# Altium integrated library Motorola Peripheral IO Port.IntLib: 3 symbols
Pins are listed as number, name and electrical type; pins without a type are passive.

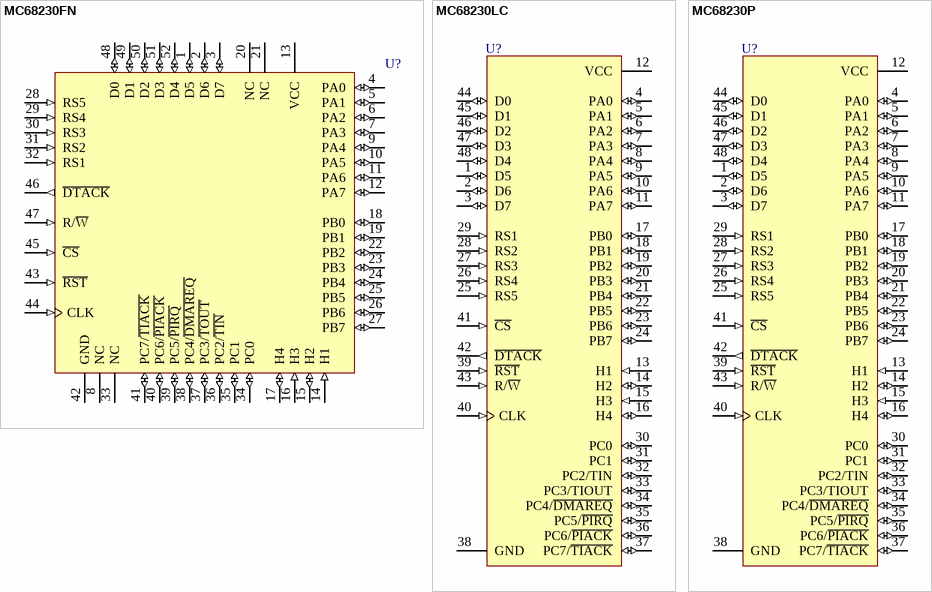
[diagram p0: symbols MC68230FN to MC68230P]

## MC68230FN
designator U?
Parallel Interface/Timer; Published: 17-Jul-2002; LatestRevisionDate: 13-Apr-2006; LatestRevisionNote: IPC-7351 Footprint Added.; DatasheetVersion: 1990; PackageVersion: rev3, 1997; PackageReference: 778-02; Publisher: Altium Limited; PackageDescription: 52-Pin Plastic Leaded Chip Carrier 1.27 mm Pitch
footprint 778-02_N (Leaded Chip Carrier, 52-Leads, Body 19x19mm, Pitch 1.27mm, IPC Medium Density)
footprint 778-02_L (Leaded Chip Carrier, 52-Leads, Body 19x19mm, Pitch 1.27mm, IPC High Density)
footprint 778-02_M (Leaded Chip Carrier, 52-Leads, Body 19x19mm, Pitch 1.27mm, IPC Low Density)
3D model MC68230-778-02 (52-Pin Plastic Leaded Chip Carrier 1.27 mm Pitch)
pins: 1 D5 (io), 2 D6 (io), 3 D7 (io), 4 PA0 (io), 5 PA1 (io), 6 PA2 (io), 7 PA3 (io), 8 NC, 9 PA4 (io), 10 PA5 (io), 11 PA6 (io), 12 PA7 (io), 13 VCC (power), 14 H1 (in), 15 H2 (io), 16 H3 (in), 17 H4 (io), 18 PB0 (io), 19 PB1 (io), 20 NC, 21 NC, 22 PB2 (io), 23 PB3 (io), 24 PB4 (io), 25 PB5 (io), 26 PB6 (io), 27 PB7 (io), 28 RS5 (in), 29 RS4 (in), 30 RS3 (in), 31 RS2 (in), 32 RS1 (in), 33 NC, 34 PC0 (io), 35 PC1 (io), 36 PC2/~{TIN} (io), 37 PC3/~{TOUT} (io), 38 PC4/~{DMAREQ} (io), 39 PC5/~{PIRQ} (io), 40 PC6/~{PIACK} (io), 41 PC7/~{TIACK} (io), 42 GND (power), 43 ~{RST} (in), 44 CLK (in), 45 ~{CS} (in), 46 ~{DTACK} (out), 47 R/~{W} (in), 48 D0 (io), 49 D1 (io), 50 D2 (io), 51 D3 (io), 52 D4 (io)

## MC68230LC
designator U?
Parallel Interface/Timer; Published: 17-Jul-2002; LatestRevisionDate: 06-Jun-2005; LatestRevisionNote: Stylized 3D Model Added.; DatasheetVersion: 1990; PackageReference: 740-03; Publisher: Altium Limited; PackageDescription: DIP; 48 Leads; Row Spacing 15.24 mm; Pitch 2.54 mm
footprint 740-03 (DIP; 48 Leads; Row Spacing 15.24 mm; Pitch 2.54 mm)
3D model 740-03 (DIP; 48 Leads; Row Spacing 15.24 mm; Pitch 2.54 mm)
pins: 1 D5 (io), 2 D6 (io), 3 D7 (io), 4 PA0 (io), 5 PA1 (io), 6 PA2 (io), 7 PA3 (io), 8 PA4 (io), 9 PA5 (io), 10 PA6 (io), 11 PA7 (io), 12 VCC (power), 13 H1 (in), 14 H2 (io), 15 H3 (in), 16 H4 (io), 17 PB0 (io), 18 PB1 (io), 19 PB2 (io), 20 PB3 (io), 21 PB4 (io), 22 PB5 (io), 23 PB6 (io), 24 PB7 (io), 25 RS5 (in), 26 RS4 (in), 27 RS3 (in), 28 RS2 (in), 29 RS1 (in), 30 PC0 (io), 31 PC1 (io), 32 PC2/TIN (io), 33 PC3/TIOUT (io), 34 PC4/~{DMAREQ} (io), 35 PC5/~{PIRQ} (io), 36 PC6/~{PIACK} (io), 37 PC7/~{TIACK} (io), 38 GND (power), 39 ~{RST} (in), 40 CLK (in), 41 ~{CS} (in), 42 ~{DTACK} (out), 43 R/~{W} (in), 44 D0 (io), 45 D1 (io), 46 D2 (io), 47 D3 (io), 48 D4 (io)

## MC68230P
designator U?
Parallel Interface/Timer; Published: 17-Jul-2002; LatestRevisionDate: 06-Jun-2005; LatestRevisionNote: Stylized 3D Model Added.; DatasheetVersion: 1990; PackageReference: 767-02; Publisher: Altium Limited; PackageDescription: DIP; 48 Leads; Row Spacing 15.24 mm; Pitch 2.54 mm
footprint 767-02 (DIP; 48 Leads; Row Spacing 15.24 mm; Pitch 2.54 mm)
3D model 740-03 (DIP; 48 Leads; Row Spacing 15.24 mm; Pitch 2.54 mm)
pins: 1 D5 (io), 2 D6 (io), 3 D7 (io), 4 PA0 (io), 5 PA1 (io), 6 PA2 (io), 7 PA3 (io), 8 PA4 (io), 9 PA5 (io), 10 PA6 (io), 11 PA7 (io), 12 VCC (power), 13 H1 (in), 14 H2 (io), 15 H3 (in), 16 H4 (io), 17 PB0 (io), 18 PB1 (io), 19 PB2 (io), 20 PB3 (io), 21 PB4 (io), 22 PB5 (io), 23 PB6 (io), 24 PB7 (io), 25 RS5 (in), 26 RS4 (in), 27 RS3 (in), 28 RS2 (in), 29 RS1 (in), 30 PC0 (io), 31 PC1 (io), 32 PC2/TIN (io), 33 PC3/TIOUT (io), 34 PC4/~{DMAREQ} (io), 35 PC5/~{PIRQ} (io), 36 PC6/~{PIACK} (io), 37 PC7/~{TIACK} (io), 38 GND (power), 39 ~{RST} (in), 40 CLK (in), 41 ~{CS} (in), 42 ~{DTACK} (out), 43 R/~{W} (in), 44 D0 (io), 45 D1 (io), 46 D2 (io), 47 D3 (io), 48 D4 (io)